# Altium footprint library THD Specific Components.PcbLib: 7 footprints
Each footprint in its own frame and in the unit in brackets; x right, y up, seen from the top. Pads: shape width x height; smd on the part's side, far side on the other; paste and mask are expansions set on the pad; w line width, h text height; cw(c..) or ccw(c..) is an arc to the next point about the centre after c.
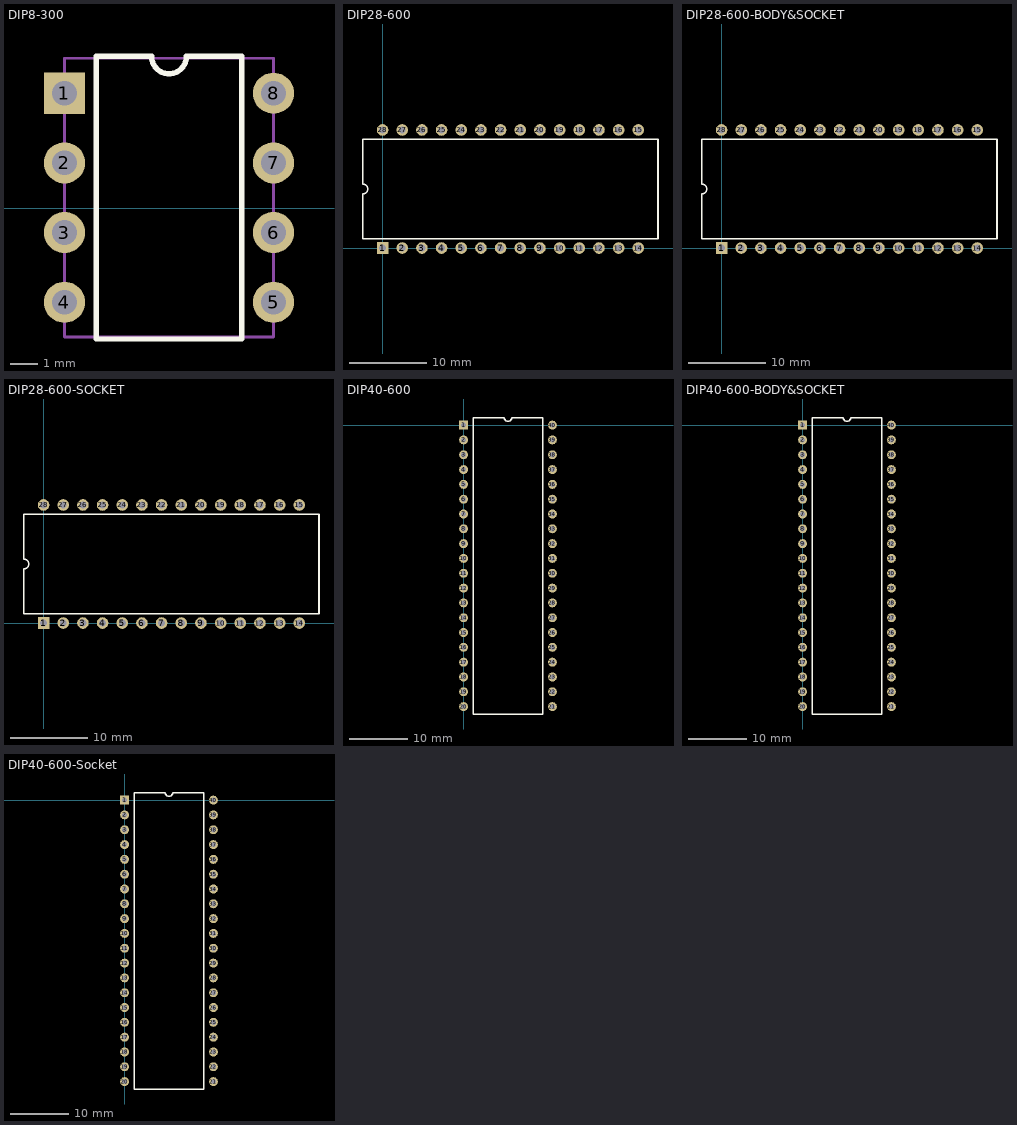
[diagram p0: the footprints below, top view; thin cyan lines are the x and y axes]

## DIP8-300 [mm] "DIP; 8 Leads; Row Spacing 7.62 mm; Pitch 2.54 mm"
height 5.33
pads (8):
  rect 1.5x1.5 hole 0.9: 1(-11.303,4.191)
  round 1.5 hole 0.9: 2(-11.303,1.651) 3(-11.303,-0.889) 4(-11.303,-3.429) 5(-3.683,-3.429) 6(-3.683,-0.889) 7(-3.683,1.651) 8(-3.683,4.191)
Top Overlay:
  lines w0.2: -10.143,-4.769 -10.143,5.531 -8.128,5.531 ccw(c-7.493,5.531) -6.858,5.531 -4.843,5.531 -4.843,-4.769 -10.143,-4.769
Mechanical 13:
  lines w0.1: -11.303,-4.699 -3.683,-4.699 -3.683,5.461 -11.303,5.461 -11.303,-4.699
3D body "DIP8-300.STEP": height 4.19, standoff -2.67, extent -11.43,-5.207 -3.556,6.223

## DIP28-600 [mm] "DIP; 28 Leads; Row Spacing 15.24 mm; Pitch 2.54 mm"
height 5.08
pads (28):
  rect 1.5x1.5 hole 0.9: 1(0,0)
  round 1.5 hole 0.9: 2(2.54,0) 3(5.08,0) 4(7.62,0) 5(10.16,0) 6(12.7,0) 7(15.24,0) 8(17.78,0) 9(20.32,0) 10(22.86,0) 11(25.4,0) 12(27.94,0) 13(30.48,0) 14(33.02,0) 15(33.02,15.24) 16(30.48,15.24) 17(27.94,15.24) 18(25.4,15.24) 19(22.86,15.24) 20(20.32,15.24) 21(17.78,15.24) 22(15.24,15.24) 23(12.7,15.24) 24(10.16,15.24) 25(7.62,15.24) 26(5.08,15.24) 27(2.54,15.24) 28(0,15.24)
Top Overlay:
  lines w0.2: -2.54,1.17 35.56,1.17 35.56,14.07 -2.54,14.07 -2.54,8.255 cw(c-2.54,7.62) -2.54,6.985 -2.54,1.17
3D body "DIP28-600.STEP": height 5.7, standoff -2.58, extent -2.14,-0.125 35.16,15.365

## DIP28-600-BODY&SOCKET [mm] "DIP; 28 Leads; Row Spacing 15.24 mm; Pitch 2.54 mm"
height 5.08
pads (28):
  rect 1.5x1.5 hole 0.9: 1(0,0)
  round 1.5 hole 0.9: 2(2.54,0) 3(5.08,0) 4(7.62,0) 5(10.16,0) 6(12.7,0) 7(15.24,0) 8(17.78,0) 9(20.32,0) 10(22.86,0) 11(25.4,0) 12(27.94,0) 13(30.48,0) 14(33.02,0) 15(33.02,15.24) 16(30.48,15.24) 17(27.94,15.24) 18(25.4,15.24) 19(22.86,15.24) 20(20.32,15.24) 21(17.78,15.24) 22(15.24,15.24) 23(12.7,15.24) 24(10.16,15.24) 25(7.62,15.24) 26(5.08,15.24) 27(2.54,15.24) 28(0,15.24)
Top Overlay:
  lines w0.2: -2.54,1.17 35.56,1.17 35.56,14.07 -2.54,14.07 -2.54,8.255 cw(c-2.54,7.62) -2.54,6.985 -2.54,1.17
3D body "DIP28-600-Body With Socket.STEP": height 9.12, standoff -3.1, extent -2.135,-1.27 35.165,16.51

## DIP28-600-SOCKET [mm] "DIP; 28 Leads; Row Spacing 15.24 mm; Pitch 2.54 mm"
height 5.08
pads (28):
  rect 1.5x1.5 hole 0.9: 1(0,0)
  round 1.5 hole 0.9: 2(2.54,0) 3(5.08,0) 4(7.62,0) 5(10.16,0) 6(12.7,0) 7(15.24,0) 8(17.78,0) 9(20.32,0) 10(22.86,0) 11(25.4,0) 12(27.94,0) 13(30.48,0) 14(33.02,0) 15(33.02,15.24) 16(30.48,15.24) 17(27.94,15.24) 18(25.4,15.24) 19(22.86,15.24) 20(20.32,15.24) 21(17.78,15.24) 22(15.24,15.24) 23(12.7,15.24) 24(10.16,15.24) 25(7.62,15.24) 26(5.08,15.24) 27(2.54,15.24) 28(0,15.24)
Top Overlay:
  lines w0.2: -2.54,1.17 35.56,1.17 35.56,14.07 -2.54,14.07 -2.54,8.255 cw(c-2.54,7.62) -2.54,6.985 -2.54,1.17
3D body "DIP28-600-Socket.STEP": height 5.1, standoff -3.1, extent -1.27,-1.27 34.29,16.51

## DIP40-600 [mil]
pads (40):
  rect 60x60 hole 35: 1(0,0)
  round 60 hole 35: 2(0,-100) 3(0,-200) 4(0,-300) 5(0,-400) 6(0,-500) 7(0,-600) 8(0,-700) 9(0,-800) 10(0,-900) 11(0,-1000) 12(0,-1100) 13(0,-1200) 14(0,-1300) 15(0,-1400) 16(0,-1500) 17(0,-1600) 18(0,-1700) 19(0,-1800) 20(0,-1900) 21(600,-1900) 22(600,-1800) 23(600,-1700) 24(600,-1600) 25(600,-1500) 26(600,-1400) 27(600,-1300) 28(600,-1200) 29(600,-1100) 30(600,-1000) 31(600,-900) 32(600,-800) 33(600,-700) 34(600,-600) 35(600,-500) 36(600,-400) 37(600,-300) 38(600,-200) 39(600,-100) 40(600,0)
Top Overlay:
  lines w10: 65,-1950 65,50 275,50 ccw(c300,50) 325,50 535,50 535,-1950 65,-1950
3D body "DIP40-600.STEP": height 224.41, standoff -101.57, extent -9.92,-1977.48 599.93,87.48

## DIP40-600-BODY&SOCKET [mil]
pads (40):
  rect 60x60 hole 35: 1(0,0)
  round 60 hole 35: 2(0,-100) 3(0,-200) 4(0,-300) 5(0,-400) 6(0,-500) 7(0,-600) 8(0,-700) 9(0,-800) 10(0,-900) 11(0,-1000) 12(0,-1100) 13(0,-1200) 14(0,-1300) 15(0,-1400) 16(0,-1500) 17(0,-1600) 18(0,-1700) 19(0,-1800) 20(0,-1900) 21(600,-1900) 22(600,-1800) 23(600,-1700) 24(600,-1600) 25(600,-1500) 26(600,-1400) 27(600,-1300) 28(600,-1200) 29(600,-1100) 30(600,-1000) 31(600,-900) 32(600,-800) 33(600,-700) 34(600,-600) 35(600,-500) 36(600,-400) 37(600,-300) 38(600,-200) 39(600,-100) 40(600,0)
Top Overlay:
  lines w10: 65,-1950 535,-1950 535,50 325,50 cw(c300,50) 275,50 65,50 65,-1950
3D body "DIP40-600-Body With Socket.STEP": height 371.67, standoff -132.11, extent -58.21,-1982.23 635.09,82.73

## DIP40-600-Socket [mil]
pads (40):
  rect 60x60 hole 35: 1(0,0)
  round 60 hole 35: 2(0,-100) 3(0,-200) 4(0,-300) 5(0,-400) 6(0,-500) 7(0,-600) 8(0,-700) 9(0,-800) 10(0,-900) 11(0,-1000) 12(0,-1100) 13(0,-1200) 14(0,-1300) 15(0,-1400) 16(0,-1500) 17(0,-1600) 18(0,-1700) 19(0,-1800) 20(0,-1900) 21(600,-1900) 22(600,-1800) 23(600,-1700) 24(600,-1600) 25(600,-1500) 26(600,-1400) 27(600,-1300) 28(600,-1200) 29(600,-1100) 30(600,-1000) 31(600,-900) 32(600,-800) 33(600,-700) 34(600,-600) 35(600,-500) 36(600,-400) 37(600,-300) 38(600,-200) 39(600,-100) 40(600,0)
Top Overlay:
  lines w10: 65,-1950 65,50 275,50 ccw(c300,50) 325,50 535,50 535,-1950 65,-1950
3D body "DIP40-600-1-socket.STEP": height 198.98, standoff -127.8, extent -57.92,-1948.03 635,48.03